# Altium schematic symbol library IC.SchLib: 46 symbols
Pins are listed as number, name and electrical type; pins without a type are passive.

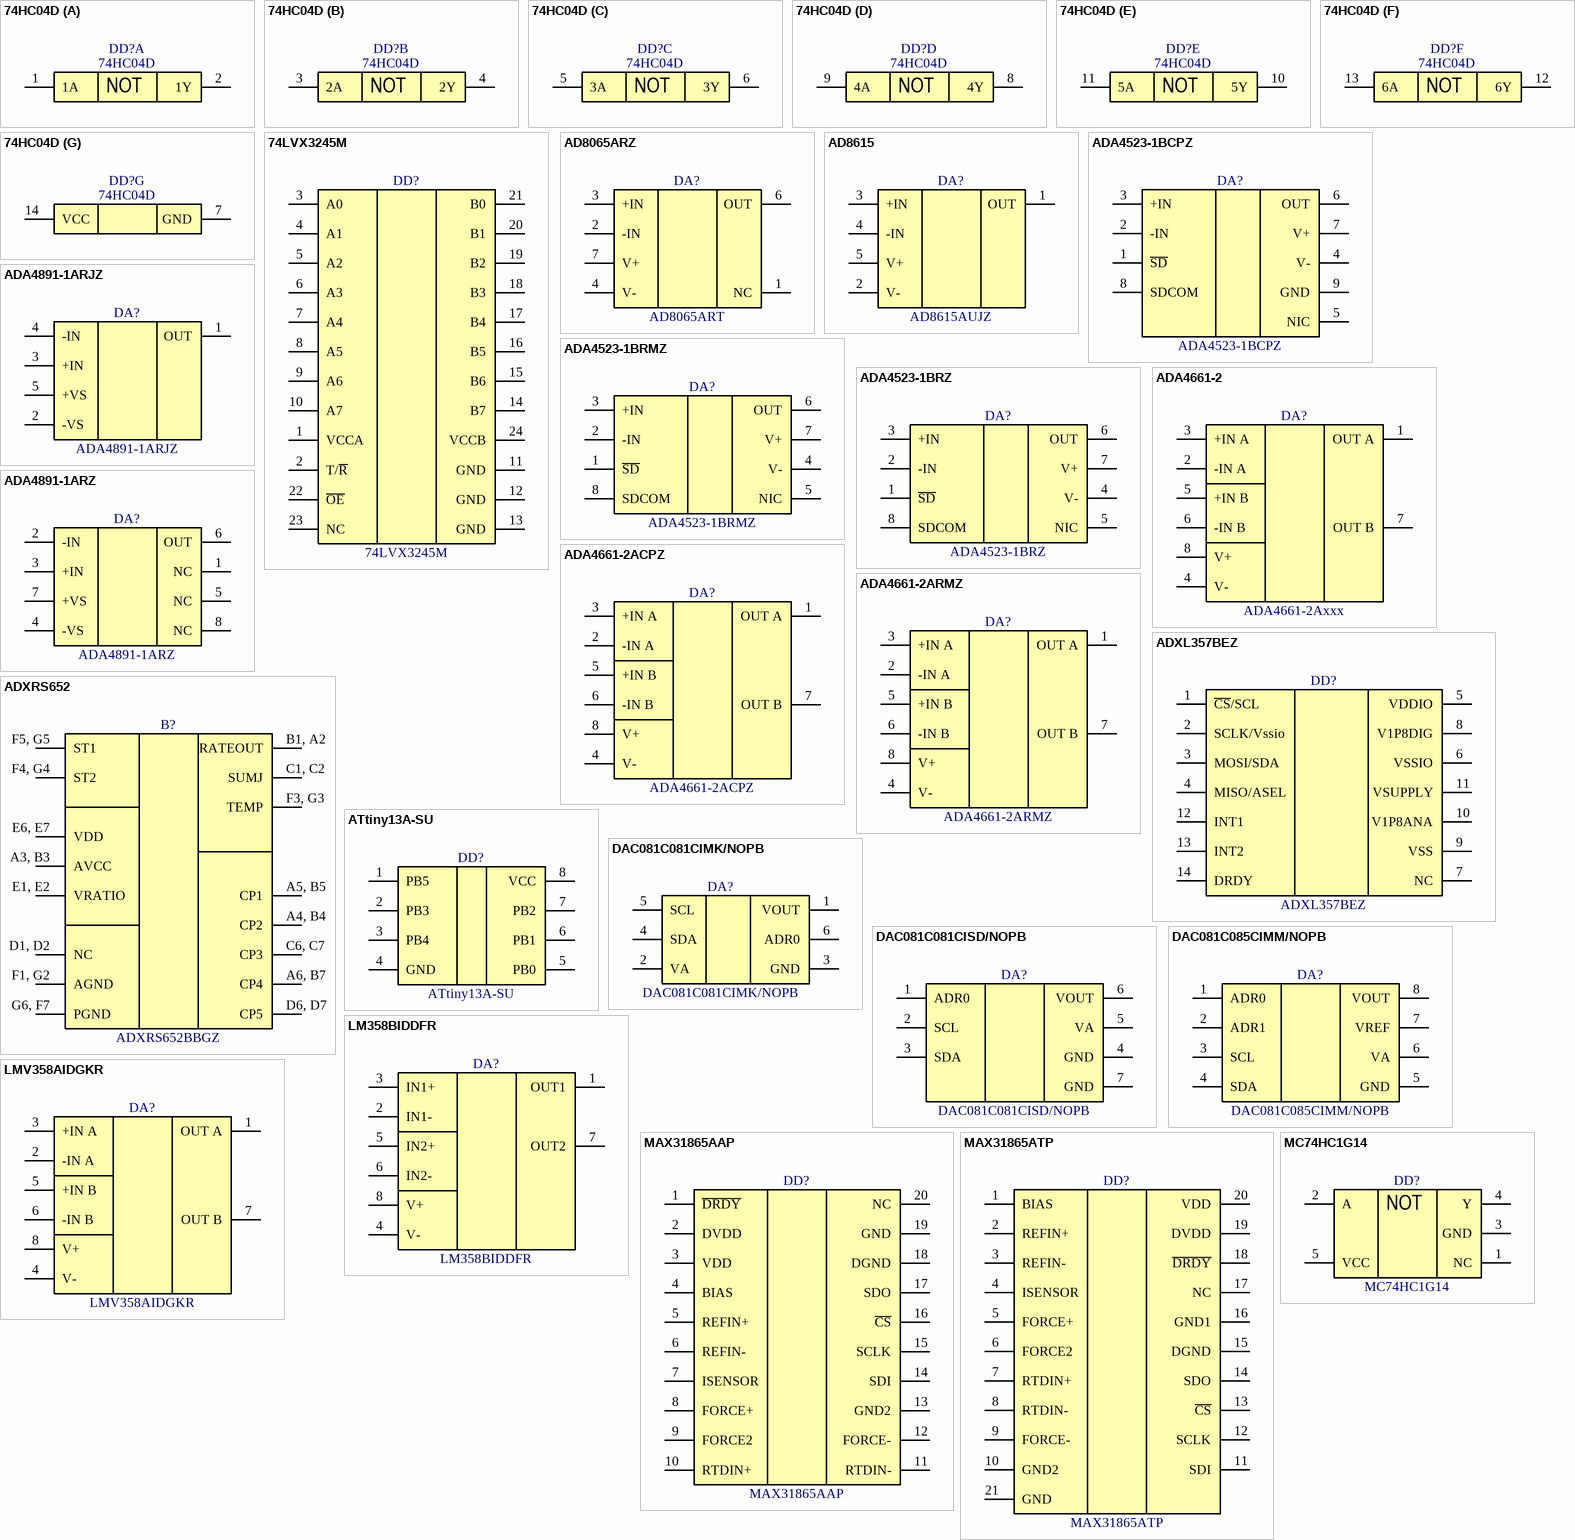
[diagram p0: symbols 74HC04D to MC74HC1G14]

## 74HC04D
designator DD?
Hex inverter; Manufacturer: OnSemi; PartNumber: 74HC04D; ComponentLink1Description: Digikey Datasheet Link; ComponentLink1URL: https://media.digikey.com/pdf/Data%20Sheets/ON%20Semiconductor%20PDFs/74HC04.pdf
footprint SOIC14P127_865X600X175L70X42N (Small Outline IC (SOIC), 1.27 mm pitch; 14 pin, 8.65 mm L X 3.90 mm W X 1.75 mm H body)
part A pins: 1 1A, 2 1Y
part B pins: 3 2A, 4 2Y
part C pins: 5 3A, 6 3Y
part D pins: 8 4Y, 9 4A
part E pins: 10 5Y, 11 5A
part F pins: 12 6Y, 13 6A
part G pins: 7 GND, 14 VCC
part A text: NOT
part B text: NOT
part C text: NOT
part D text: NOT
part E text: NOT
part F text: NOT

## 74LVX3245M
designator DD?
8-Bit Dual-Supply Translator with 3-State Outputs; Manufacturer: STMicroelectronics; PartNumber: 74LVX3245M
footprint SOP24P65_780X640X110L60X24N (Small Outline Pkg (SOP), 0.65 mm pitch; 24 pin, 7.80 mm L X 4.40 mm W X 1.10 mm H body)
pins: 1 VCCA, 2 T/~{R}, 3 A0, 4 A1, 5 A2, 6 A3, 7 A4, 8 A5, 9 A6, 10 A7, 11 GND, 12 GND, 13 GND, 14 B7, 15 B6, 16 B5, 17 B4, 18 B3, 19 B2, 20 B1, 21 B0, 22 ~{OE}, 23 NC, 24 VCCB

## AD8065ARZ
designator DA?, comment AD8065ART
High Performance, 145 MHz FastFET™ Op Amps / Single, SOIC_N; Manufacturer: Analog Devices; PartNumber: AD8065ART; ComponentLink1Description: Product Page; ComponentLink1URL: https://www.analog.com/en/products/ad8065.html; ComponentLink2Description: DataSheet; ComponentLink2URL: https://www.analog.com/media/en/technical-documentation/data-sheets/AD8065_8066.pdf
footprint SOIC8P127_490X600X175L83X41N (Small Outline IC (SOIC), 1.27 mm pitch; 8 pin, 4.90 mm L X 3.90 mm W X 1.75 mm H body)
pins: 1 NC, 2 -IN, 3 +IN, 4 V-, 6 OUT, 7 V+

## AD8615
designator DA?, comment AD8615AUJZ
Precision, 20 MHz, CMOS, Rail-to-Rail Input/Output Operational Amplifier; Manufacturer: Analog Devices; PartNumber: AD8615AUJZ; ComponentLink1Description: Product Page; ComponentLink1URL: https://www.analog.com/en/products/ad8615.html; ComponentLink2Description: DataSheet; ComponentLink2URL: https://www.analog.com/media/en/technical-documentation/data-sheets/AD8615_8616_8618.pdf
footprint SOT23-5P95_280X100L45X40N (Small Outline Transistor (SOT23), 0.95 mm pitch; 5 pin, 2.90 mm L X 1.60 mm W X 1.00 mm H body)
pins: 1 OUT, 2 V-, 3 +IN, 4 -IN, 5 V+

## ADA4523-1BCPZ
designator DA?
36 V, Low Noise, Zero Drift Op Amp, CP-8-29 (LFCSP); Manufacturer: Analog Devices; PartNumber: ADA4523-1BCPZ; ComponentLink1Description: Product Page; ComponentLink1URL: https://www.analog.com/en/products/ada4523-1.html; ComponentLink2Description: DataSheet; ComponentLink2URL: https://www.analog.com/media/en/technical-documentation/data-sheets/ada4523-1.pdf
footprint SON9P50_300X300X80L40X25T238X165N (Small Outline No-Lead (SON with Tab), 0.50 mm pitch; 8 pin, 3.00 mm L X 3.00 mm W X 0.80 mm H body)
pins: 1 ~{SD}, 2 -IN, 3 +IN, 4 V-, 5 NIC, 6 OUT, 7 V+, 8 SDCOM, 9 GND

## ADA4523-1BRMZ
designator DA?
36 V, Low Noise, Zero Drift Op Amp, RM-8 (MSOP); Manufacturer: Analog Devices; PartNumber: ADA4523-1BRMZ; ComponentLink1Description: Product Page; ComponentLink1URL: https://www.analog.com/en/products/ada4523-1.html; ComponentLink2Description: DataSheet; ComponentLink2URL: https://www.analog.com/media/en/technical-documentation/data-sheets/ada4523-1.pdf
footprint SOP8P65_300X490X110L60X32N (Small Outline Pkg (SOP), 0.65 mm pitch; 8 pin, 3.00 mm L X 3.00 mm W X 1.10 mm H body)
pins: 1 ~{SD}, 2 -IN, 3 +IN, 4 V-, 5 NIC, 6 OUT, 7 V+, 8 SDCOM

## ADA4523-1BRZ
designator DA?
36 V, Low Noise, Zero Drift Op Amp, R-8 (SOIC_N); Manufacturer: Analog Devices; PartNumber: ADA4523-1BRZ; ComponentLink1Description: Product Page; ComponentLink1URL: https://www.analog.com/en/products/ada4523-1.html; ComponentLink2Description: DataSheet; ComponentLink2URL: https://www.analog.com/media/en/technical-documentation/data-sheets/ada4523-1.pdf
footprint SOIC8P127_490X600X175L83X41N (Small Outline IC (SOIC), 1.27 mm pitch; 8 pin, 4.90 mm L X 3.90 mm W X 1.75 mm H body)
pins: 1 ~{SD}, 2 -IN, 3 +IN, 4 V-, 5 NIC, 6 OUT, 7 V+, 8 SDCOM

## ADA4661-2
designator DA?, comment ADA4661-2Axxx
18 V, Precision, 725 μA, 4 MHz, CMOS RRIO Operational Amplifier; Manufacturer: Analog Devices; PartNumber: ADA4661-2Axxx; ComponentLink1Description: Product Page; ComponentLink1URL: https://www.analog.com/en/products/ADA4661-2.html; ComponentLink2Description: DataSheet; ComponentLink2URL: https://www.analog.com/media/en/technical-documentation/data-sheets/ADA4661-2.pdf
footprint TSOP65P490X110-8N (TSOP, 8-Leads, Body 3.00x3.00mm, Pitch 0.65mm, IPC Medium Density)
footprint SON50P300X80_HS-9N (SON, 8-Leads, Body 3.00x3.00mm, Pitch 0.50mm, Thermal Pad 2.34x1.49mm, IPC Medium Density)
pins: 1 OUT A, 2 -IN A, 3 +IN A, 4 V-, 5 +IN B, 6 -IN B, 7 OUT B, 8 V+

## ADA4661-2ACPZ
designator DA?
18 V, Precision, 725 μA, 4 MHz, CMOS RRIO Operational Amplifier, CP-8-11 (LFCSP_WD); Manufacturer: Analog Devices; PartNumber: ADA4661-2ACPZ; ComponentLink1Description: Product Page; ComponentLink1URL: https://www.analog.com/en/products/ADA4661-2.html; ComponentLink2Description: DataSheet; ComponentLink2URL: https://www.analog.com/media/en/technical-documentation/data-sheets/ADA4661-2.pdf
footprint SON50P300X80_HS-9N (SON, 8-Leads, Body 3.00x3.00mm, Pitch 0.50mm, Thermal Pad 2.34x1.49mm, IPC Medium Density)
pins: 1 OUT A, 2 -IN A, 3 +IN A, 4 V-, 5 +IN B, 6 -IN B, 7 OUT B, 8 V+

## ADA4661-2ARMZ
designator DA?
18 V, Precision, 725 μA, 4 MHz, CMOS RRIO Operational Amplifier, RM-8 (MSOP); Manufacturer: Analog Devices; PartNumber: ADA4661-2ARMZ; ComponentLink1Description: Product Page; ComponentLink1URL: https://www.analog.com/en/products/ADA4661-2.html; ComponentLink2Description: DataSheet; ComponentLink2URL: https://www.analog.com/media/en/technical-documentation/data-sheets/ADA4661-2.pdf
footprint TSOP65P490X110-8N (TSOP, 8-Leads, Body 3.00x3.00mm, Pitch 0.65mm, IPC Medium Density)
pins: 1 OUT A, 2 -IN A, 3 +IN A, 4 V-, 5 +IN B, 6 -IN B, 7 OUT B, 8 V+

## ADA4891-1ARJZ
designator DA?
Low Cost CMOS, High Speed, Rail-to-Rail Amplifiers, SOT-23; Manufacturer: Analog Devices; PartNumber: ADA4891-1ARJZ; ComponentLink1Description: Product Page; ComponentLink1URL: https://www.analog.com/en/products/ada4891-1.html; ComponentLink2Description: DataSheet; ComponentLink2URL: https://www.analog.com/media/en/technical-documentation/data-sheets/ADA4891-1_4891-2_4891-3_4891-4.PDF
footprint SOT23-5P95_280X145L45X42N (Small Outline Transistor (SOT23), 0.95 mm pitch; 5 pin, 2.90 mm L X 1.60 mm W X 1.45 mm H body)
pins: 1 OUT, 2 -VS, 3 +IN, 4 -IN, 5 +VS

## ADA4891-1ARZ
designator DA?
Low Cost CMOS, High Speed, Rail-to-Rail Amplifiers, SOIC_N; Manufacturer: Analog Devices; PartNumber: ADA4891-1ARZ; ComponentLink1Description: Product Page; ComponentLink1URL: https://www.analog.com/en/products/ada4891-1.html; ComponentLink2Description: DataSheet; ComponentLink2URL: https://www.analog.com/media/en/technical-documentation/data-sheets/ADA4891-1_4891-2_4891-3_4891-4.PDF
footprint SOIC8P127_490X600X175L83X41N (Small Outline IC (SOIC), 1.27 mm pitch; 8 pin, 4.90 mm L X 3.90 mm W X 1.75 mm H body)
pins: 1 NC, 2 -IN, 3 +IN, 4 -VS, 5 NC, 6 OUT, 7 +VS, 8 NC

## ADXL357BEZ
designator DD?
Low Noise, Low Drift, Low Power, 3-Axis MEMS Accelerometers; Manufacturer: Analog Devices; PartNumber: ADXL357BEZ; ComponentLink1Description: Product Page; ComponentLink1URL: https://www.analog.com/en/products/ADXL357.html; ComponentLink2Description: DataSheet; ComponentLink2URL: https://www.analog.com/media/en/technical-documentation/data-sheets/adxl356-357.pdf
footprint LCCS14P127_605X605X220L91X50N (Leadless Chip Carrier (LCC), 1.27 mm pitch; square, 4 pin X 3 pin, 6.05 mm L X 6.05 mm W X 2.20 mm H body)
pins: 1 ~{CS}/SCL, 2 SCLK/Vssio, 3 MOSI/SDA, 4 MISO/ASEL, 5 VDDIO, 6 VSSIO, 7 NC, 8 V1P8DIG, 9 VSS, 10 V1P8ANA, 11 VSUPPLY, 12 INT1, 13 INT2, 14 DRDY

## ADXRS652
designator B?, comment ADXRS652BBGZ
±250°/sec Yaw Rate Gyro; Manufacturer: Analog Devices; PartNumber: ADXRS652BBGZ; ComponentLink1Description: Product Page; ComponentLink1URL: https://www.analog.com/en/products/adxrs652.html; ComponentLink2Description: DataSheet; ComponentLink2URL: https://www.analog.com/media/en/technical-documentation/data-sheets/ADXRS652.pdf; ComponentLink3Description: User Guide; ComponentLink3URL: https://www.analog.com/media/en/technical-documentation/user-guides/UG-153.pdf
footprint BGA32CP80_7X7_687X687X380B55N (Ball Grid Array (BGA), 0.80 mm pitch, square; 32 pin, 6.875 mm L X 6.875 mm W X 3.80 mm H body)
pins: A3, B3 AVCC, A4, B4 CP2, A5, B5 CP1, A6, B7 CP4, B1, A2 RATEOUT, C1, C2 SUMJ, C6, C7 CP3, D1, D2 NC, D6, D7 CP5, E1, E2 VRATIO, E6, E7 VDD, F1, G2 AGND, F3, G3 TEMP, F4, G4 ST2, F5, G5 ST1, G6, F7 PGND

## ATtiny13A-SU
designator DD?
Microcontroller with 1K Bytes / In-System Programmable Flash; Manufacturer: Microchip; PartNumber: ATtiny13A-SU; ComponentLink1Description: Product Page; ComponentLink1URL: https://www.microchip.com/en-us/product/ATtiny13A; ComponentLink2Description: DataSheet; ComponentLink2URL: https://ww1.microchip.com/downloads/aemDocuments/documents/MCU08/ProductDocuments/DataSheets/ATtiny13A-Data-Sheet-DS40002307A.pdf
footprint SOIC8P127_524X798X216L68X40N (Small Outline IC (SOIC), 1.27 mm pitch; 8 pin, 5.24 mm L X 5.29 mm W X 2.16 mm H body)
pins: 1 PB5, 2 PB3, 3 PB4, 4 GND, 5 PB0, 6 PB1, 7 PB2, 8 VCC

## DAC081C081CIMK/NOPB
designator DA?
AC081C08x 8-Bit Micro Power Digital-to-Analog Converter With An I2C-Compatible / Interface, SOT-23-THIN; Manufacturer: Texas Instruments; PartNumber: DAC081C081CIMK/NOPB; ComponentLink1Description: Product Page; ComponentLink1URL: https://www.ti.com/product/DAC081C081; ComponentLink2Description: DataSheet; ComponentLink2URL: https://www.ti.com/lit/gpn/dac081c081
footprint SOT95P280X110-6N (SOT23, 6-Leads, Body 2.90x2.80mm, Pitch 0.95mm, IPC Medium Density)
pins: 1 VOUT, 2 VA, 3 GND, 4 SDA, 5 SCL, 6 ADR0

## DAC081C081CISD/NOPB
designator DA?
AC081C08x 8-Bit Micro Power Digital-to-Analog Converter With An I2C-Compatible / Interface, WSON; Manufacturer: Texas Instruments; PartNumber: DAC081C081CISD/NOPB; ComponentLink1Description: Product Page; ComponentLink1URL: https://www.ti.com/product/DAC081C081; ComponentLink2Description: DataSheet; ComponentLink2URL: https://www.ti.com/lit/gpn/dac081c081
footprint SON7P65_220X250X80L40X25T120X75N (Small Outline No-Lead (SON with Tab), 0.65 mm pitch; 6 pin, 2.20 mm L X 2.50 mm W X 0.80 mm H body)
pins: 1 ADR0, 2 SCL, 3 SDA, 4 GND, 5 VA, 6 VOUT, 7 GND

## DAC081C085CIMM/NOPB
designator DA?
AC081C08x 8-Bit Micro Power Digital-to-Analog Converter With An I2C-Compatible / Interface, VSSOP; Manufacturer: Texas Instruments; PartNumber: DAC081C085CIMM/NOPB; ComponentLink1Description: Product Page; ComponentLink1URL: https://www.ti.com/product/DAC081C081; ComponentLink2Description: DataSheet; ComponentLink2URL: https://www.ti.com/lit/gpn/dac081c081
footprint SOP8P65_300X490X110L55X31N (Small Outline Pkg (SOP), 0.65 mm pitch; 8 pin, 3.00 mm L X 3.00 mm W X 1.10 mm H body)
pins: 1 ADR0, 2 ADR1, 3 SCL, 4 SDA, 5 GND, 6 VA, 7 VREF, 8 VOUT

## LM358BIDDFR
designator DA?
Dual, 36-V, 1.2-MHz, 3-mV offset voltage operational amplifier with -40°C to 85°C operation; Manufacturer: Texas Instruments; ComponentLink1Description: Product Page; ComponentLink1URL: https://www.ti.com/product/LM358B; PartNumber: LM358BIDDFR; ComponentLink2Description: DataSheet; ComponentLink2URL: https://www.ti.com/lit/gpn/lm358b
footprint SOT23-8P65_280X110L45X30N (Small Outline Transistor (SOT23), 0.65 mm pitch; 8 pin, 2.90 mm L X 1.60 mm W X 1.10 mm H body)
pins: 1 OUT1, 2 IN1-, 3 IN1+, 4 V-, 5 IN2+, 6 IN2-, 7 OUT2, 8 V+

## LMV358AIDGKR
designator DA?
Dual, 5.5-V, 1-MHz, 4-mV offset voltage, RRO operational amplifier, VSSOP-8; Manufacturer: Texas Instruments; PartNumber: LMV358AIDGKR; ComponentLink1Description: Product Page; ComponentLink1URL: https://www.ti.com/product/LMV358A; ComponentLink2Description: DataSheet; ComponentLink2URL: https://www.ti.com/lit/gpn/lmv358a
footprint SOP8P65_300X490X110L55X33N (Small Outline Pkg (SOP), 0.65 mm pitch; 8 pin, 3.00 mm L X 3.00 mm W X 1.10 mm H body)
pins: 1 OUT A, 2 -IN A, 3 +IN A, 4 V-, 5 +IN B, 6 -IN B, 7 OUT B, 8 V+

## MAX31865AAP
designator DD?
RTD-to-Digital Converter, SSOP; Manufacturer: Analog Devices; PartNumber: MAX31865AAP; ComponentLink1Description: Product Page; ComponentLink1URL: https://www.analog.com/en/products/max31865.html; ComponentLink2Description: DataSheet; ComponentLink2URL: https://www.analog.com/media/en/technical-documentation/data-sheets/MAX31865.pdf; ComponentLink3Description: Package Outline; ComponentLink3URL: http://pdfserv.maximintegrated.com/package_dwgs/21-0056.PDF; ComponentLink4Description: Land Pattern; ComponentLink4URL: http://pdfserv.maximintegrated.com/land_patterns/90-0094.PDF
footprint SOP20P65_720X777X200L79X31N (Small Outline Pkg (SOP), 0.65 mm pitch; 20 pin, 7.20 mm L X 5.29 mm W X 2.00 mm H body)
pins: 1 ~{DRDY}, 2 DVDD, 3 VDD, 4 BIAS, 5 REFIN+, 6 REFIN-, 7 ISENSOR, 8 FORCE+, 9 FORCE2, 10 RTDIN+, 11 RTDIN-, 12 FORCE-, 13 GND2, 14 SDI, 15 SCLK, 16 ~{CS}, 17 SDO, 18 DGND, 19 GND, 20 NC

## MAX31865ATP
designator DD?
RTD-to-Digital Converter, TQFN; Manufacturer: Analog Devices; PartNumber: MAX31865ATP; ComponentLink1Description: Product Page; ComponentLink1URL: https://www.analog.com/en/products/max31865.html; ComponentLink2Description: DataSheet; ComponentLink2URL: https://www.analog.com/media/en/technical-documentation/data-sheets/MAX31865.pdf; ComponentLink3Description: Package Outline; ComponentLink3URL: http://pdfserv.maximintegrated.com/package_dwgs/21-0140.PDF; ComponentLink4Description: Land Pattern; ComponentLink4URL: http://pdfserv.maximintegrated.com/land_patterns/90-0010.PDF
footprint QFN21P65_500X500X80L40X30T325N (Quad Flat No-Lead (QFN with Tab), 0.65 mm pitch; square, 5 pin X 5 pin, 5.00 mm L X 5.00 mm W X 0.80 mm H body)
pins: 1 BIAS, 2 REFIN+, 3 REFIN-, 4 ISENSOR, 5 FORCE+, 6 FORCE2, 7 RTDIN+, 8 RTDIN-, 9 FORCE-, 10 GND2, 11 SDI, 12 SCLK, 13 ~{CS}, 14 SDO, 15 DGND, 16 GND1, 17 NC, 18 ~{DRDY}, 19 DVDD, 20 VDD, 21 GND

## MC74HC1G14
designator DD?
Single Inverter with  Schmitt-Trigger Input; Manufacturer: OnSemi; PartNumber: MC74HC1G14; ComponentLink1Description: Product Page; ComponentLink1URL: https://www.onsemi.com/products/timing-logic-memory/standard-logic/buffers/mc74hc1g14; ComponentLink2Description: DataSheet; ComponentLink2URL: https://www.onsemi.com/download/data-sheet/pdf/mc74hc1g14-d.pdf
footprint SOT23-5P65_210X110L20X20N (Small Outline Transistor (SOT23), 0.65 mm pitch; 5 pin, 2.00 mm L X 1.25 mm W X 1.10 mm H body)
pins: 1 NC, 2 A, 3 GND, 4 Y, 5 VCC
text: NOT

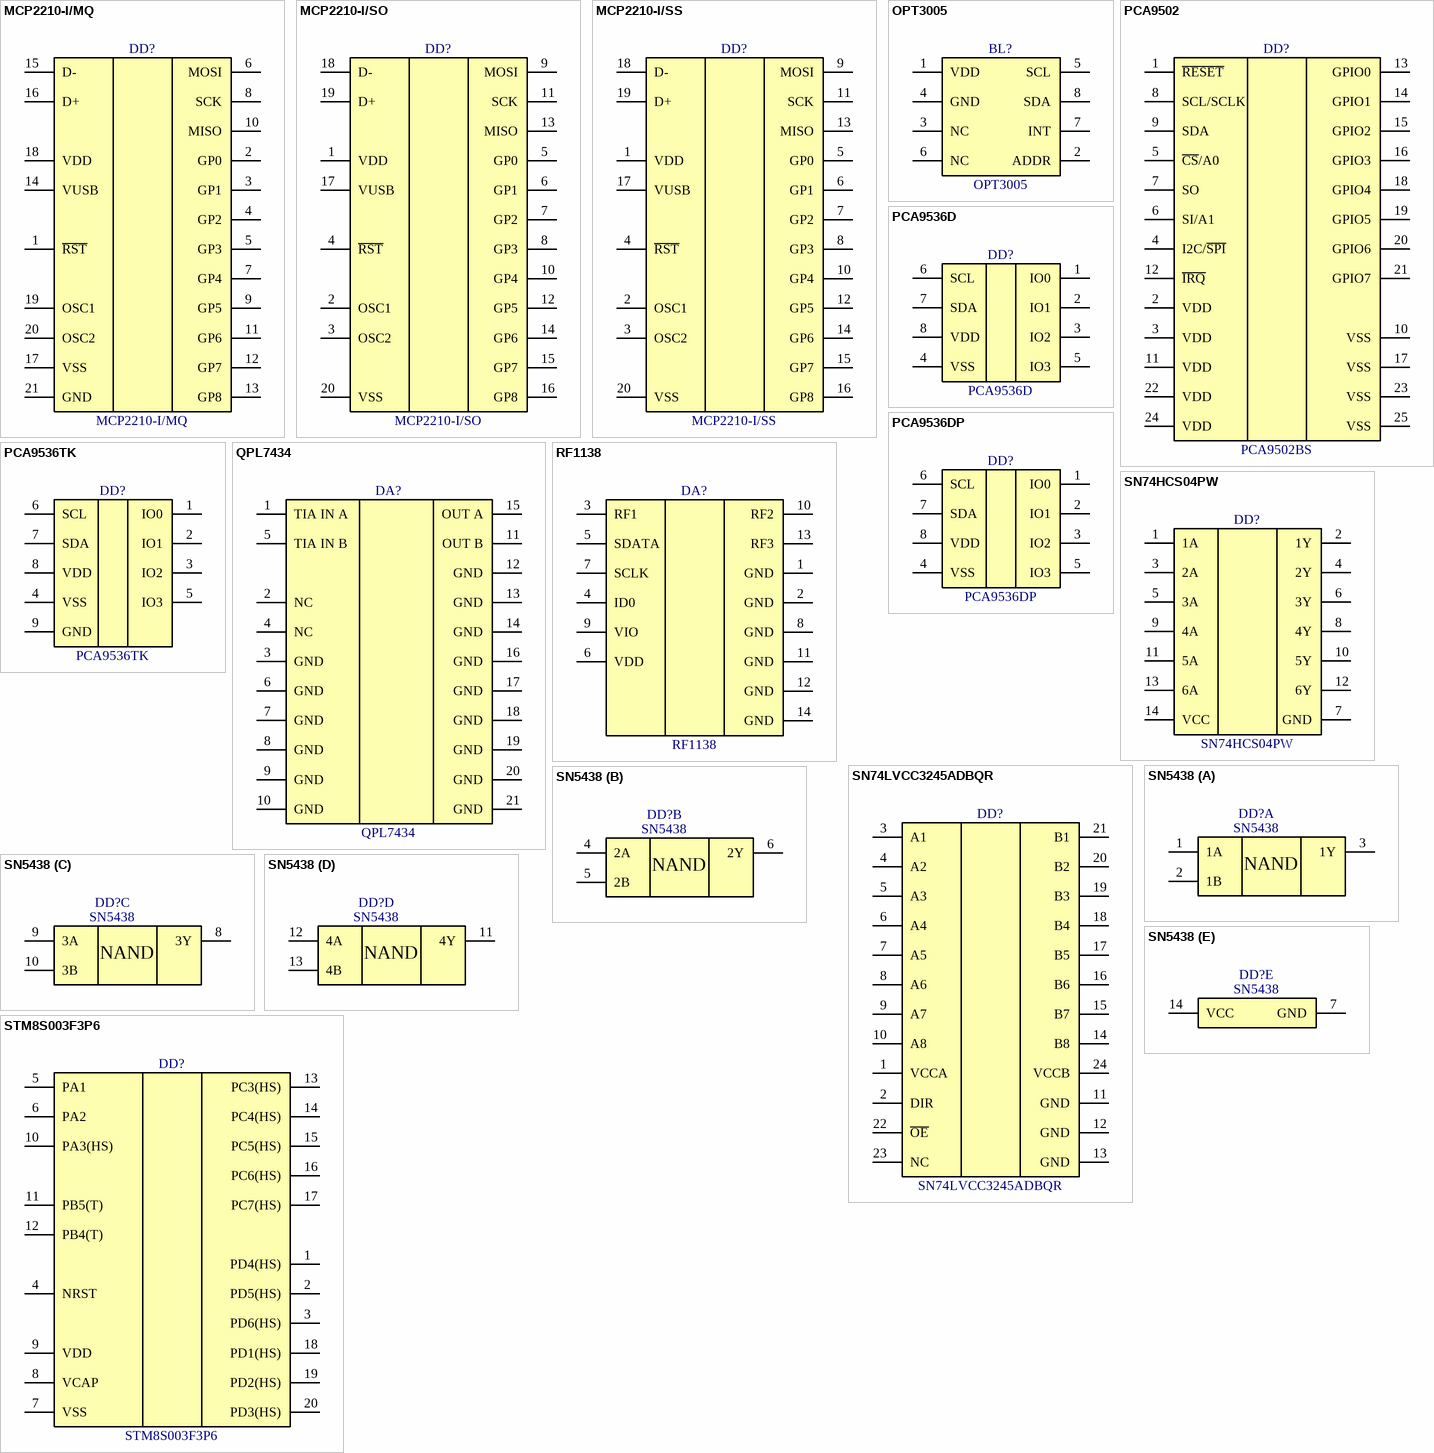
[diagram p1: symbols MCP2210-I/MQ to STM8S003F3P6]

## MCP2210-I/MQ
designator DD?
USB to SPI Converter with GPIO (Master Mode), QFN20; Manufacturer: Microchip; PartNumber: MCP2210-I/MQ; ComponentLink1Description: Product Page; ComponentLink1URL: https://www.microchip.com/en-us/product/MCP2210; ComponentLink2Description: DataSheet; ComponentLink2URL: https://ww1.microchip.com/downloads/aemDocuments/documents/APID/ProductDocuments/DataSheets/MCP2210-USB-to-SPI-Protocol-Converter-with-GPIO-%28Host-Mode%29-20002288C.pdf
footprint QFN21P65_500X500X100L40X30T325N (Quad Flat No-Lead (QFN with Tab), 0.65 mm pitch; square, 5 pin X 5 pin, 5.00 mm L X 5.00 mm W X 1.00 mm H body)
pins: 1 ~{RST}, 2 GP0, 3 GP1, 4 GP2, 5 GP3, 6 MOSI, 7 GP4, 8 SCK, 9 GP5, 10 MISO, 11 GP6, 12 GP7, 13 GP8, 14 VUSB, 15 D-, 16 D+, 17 VSS, 18 VDD, 19 OSC1, 20 OSC2, 21 GND

## MCP2210-I/SO
designator DD?
USB to SPI Converter with GPIO (Master Mode), 20 SOIC; Manufacturer: Microchip; PartNumber: MCP2210-I/SO; ComponentLink1Description: Product Page; ComponentLink1URL: https://www.microchip.com/en-us/product/MCP2210; ComponentLink2Description: DataSheet; ComponentLink2URL: https://ww1.microchip.com/downloads/aemDocuments/documents/APID/ProductDocuments/DataSheets/MCP2210-USB-to-SPI-Protocol-Converter-with-GPIO-%28Host-Mode%29-20002288C.pdf
footprint SOIC20P127_1280X1030X265L65X41N (Small Outline IC (SOIC), 1.27 mm pitch; 20 pin, 12.80 mm L X 7.50 mm W X 2.65 mm H body)
pins: 1 VDD, 2 OSC1, 3 OSC2, 4 ~{RST}, 5 GP0, 6 GP1, 7 GP2, 8 GP3, 9 MOSI, 10 GP4, 11 SCK, 12 GP5, 13 MISO, 14 GP6, 15 GP7, 16 GP8, 17 VUSB, 18 D-, 19 D+, 20 VSS

## MCP2210-I/SS
designator DD?
USB to SPI Converter with GPIO (Master Mode), 20 SSOP; Manufacturer: Microchip; PartNumber: MCP2210-I/SS; ComponentLink1Description: Product Page; ComponentLink1URL: https://www.microchip.com/en-us/product/MCP2210; ComponentLink2Description: DataSheet; ComponentLink2URL: https://ww1.microchip.com/downloads/aemDocuments/documents/APID/ProductDocuments/DataSheets/MCP2210-USB-to-SPI-Protocol-Converter-with-GPIO-%28Host-Mode%29-20002288C.pdf
footprint SOP20P65_720X780X200L75X30N (Small Outline Pkg (SOP), 0.65 mm pitch; 20 pin, 7.20 mm L X 5.30 mm W X 2.00 mm H body)
pins: 1 VDD, 2 OSC1, 3 OSC2, 4 ~{RST}, 5 GP0, 6 GP1, 7 GP2, 8 GP3, 9 MOSI, 10 GP4, 11 SCK, 12 GP5, 13 MISO, 14 GP6, 15 GP7, 16 GP8, 17 VUSB, 18 D-, 19 D+, 20 VSS

## OPT3005
designator BL?
Ambient light sensor (ALS) for video surveillance cameras; Manufacturer: Texas Instruments; PartNumber: OPT3005; ComponentLink1Description: Product Page; ComponentLink1URL: https://www.ti.com/product/OPT3005; ComponentLink2Description: DataSheet; ComponentLink2URL: https://www.ti.com/lit/gpn/opt3005
footprint OPT3005 (Integrated Circuit (IC), Small Outline Flat Lead (SOFL), 0.50 mm pitch; 8 pin, 2.10 mm L X 1.20 mm W X 0.60 mm H body)
pins: 1 VDD, 2 ADDR, 3 NC, 4 GND, 5 SCL, 6 NC, 7 INT, 8 SDA

## PCA9502
designator DD?, comment PCA9502BS
8-bit I/O expander with I2C-bus/SPI interface; Manufacturer: NXP; PartNumber: PCA9502BS; ComponentLink1Description: Product Page; ComponentLink1URL: https://www.nxp.com/products/interfaces/ic-spi-i3c-interface-devices/general-purpose-i-o-gpio/8-bit-i-o-expander-with-ic-bus-spi-interface:PCA9502BS; ComponentLink2Description: DataSheet; ComponentLink2URL: https://www.nxp.com/docs/en/data-sheet/PCA9502.pdf
footprint QFN25P50_400X400X100L40X24T260N (Quad Flat No-Lead (QFN with Tab), 0.50 mm pitch; square, 6 pin X 6 pin, 4.00 mm L X 4.00 mm W X 1.00 mm H body)
pins: 1 ~{RESET}, 2 VDD, 3 VDD, 4 I2C/~{SPI}, 5 ~{CS}/A0, 6 SI/A1, 7 SO, 8 SCL/SCLK, 9 SDA, 10 VSS, 11 VDD, 12 ~{IRQ}, 13 GPIO0, 14 GPIO1, 15 GPIO2, 16 GPIO3, 17 VSS, 18 GPIO4, 19 GPIO5, 20 GPIO6, 21 GPIO7, 22 VDD, 23 VSS, 24 VDD, 25 VSS

## PCA9536D
designator DD?
4-bit I2C-bus and SMBus I/O port, SO8; Manufacturer: NXP; PartNumber: PCA9536D; ComponentLink1Description: Product Page; ComponentLink1URL: https://www.nxp.com/part/PCA9536D#/; ComponentLink2Description: DataSheet; ComponentLink2URL: https://www.nxp.com/docs/en/data-sheet/PCA9536.pdf
footprint SOIC8P127_490X600X175L70X42N (Small Outline IC (SOIC), 1.27 mm pitch; 8 pin, 4.90 mm L X 3.90 mm W X 1.75 mm H body)
pins: 1 IO0, 2 IO1, 3 IO2, 4 VSS, 5 IO3, 6 SCL, 7 SDA, 8 VDD

## PCA9536DP
designator DD?
4-bit I2C-bus and SMBus I/O port, TSSOP8; Manufacturer: NXP; PartNumber: PCA9536DP; ComponentLink1Description: Product Page; ComponentLink1URL: https://www.nxp.com/part/PCA9536DP#/; ComponentLink2Description: DataSheet; ComponentLink2URL: https://www.nxp.com/docs/en/data-sheet/PCA9536.pdf
footprint SOP8P65_300X490X110L55X35N (Footprint not found)
pins: 1 IO0, 2 IO1, 3 IO2, 4 VSS, 5 IO3, 6 SCL, 7 SDA, 8 VDD

## PCA9536TK
designator DD?
4-bit I2C-bus and SMBus I/O port, HVSON8; Manufacturer: NXP; PartNumber: PCA9536TK; ComponentLink1Description: Product Page; ComponentLink1URL: https://www.nxp.com/part/PCA9536TK#/; ComponentLink2Description: DataSheet; ComponentLink2URL: https://www.nxp.com/docs/en/data-sheet/PCA9536.pdf
footprint SON9P50_300X300X100L40X25T210X150N (Small Outline No-Lead (SON with Tab), 0.50 mm pitch; 8 pin, 3.00 mm L X 3.00 mm W X 1.00 mm H body)
pins: 1 IO0, 2 IO1, 3 IO2, 4 VSS, 5 IO3, 6 SCL, 7 SDA, 8 VDD, 9 GND

## QPL7434
designator DA?
xPON Video Receiver; Manufacturer: Qorvo; PartNumber: QPL7434; ComponentLink1Description: Product Page; ComponentLink1URL: https://www.qorvo.com/products/p/QPL7434; ComponentLink2Description: DataSheet; ComponentLink2URL: https://www.qorvo.com/products/d/da006890
footprint QFN21P50_400X400X90L55X23T215N (Quad Flat No-Lead (QFN with Tab), 0.50 mm pitch; square, 5 pin X 5 pin, 4.00 mm L X 4.00 mm W X 0.90 mm H body)
pins: 1 TIA IN A, 2 NC, 3 GND, 4 NC, 5 TIA IN B, 6 GND, 7 GND, 8 GND, 9 GND, 10 GND, 11 OUT B, 12 GND, 13 GND, 14 GND, 15 OUT A, 16 GND, 17 GND, 18 GND, 19 GND, 20 GND, 21 GND

## RF1138
designator DA?
5 bit Tunable Capacitor with Switch; Manufacturer: Qorvo; PartNumber: RF1138; ComponentLink1Description: DataSheet; ComponentLink1URL: https://www.qorvo.com/products/d/da000312
footprint WLCSP14RCP40_4X5_158X198X60B26N (WLCSP, 0.40 mm pitch, rect.; 14 pin, 1.58 mm L X 1.98 mm W X 0.602 mm H body (w/reversed pins))
pins: 1 GND, 2 GND, 3 RF1, 4 ID0, 5 SDATA, 6 VDD, 7 SCLK, 8 GND, 9 VIO, 10 RF2, 11 GND, 12 GND, 13 RF3, 14 GND

## SN74HCS04PW
designator DD?
SN74HCS04 Hex Inverter with Schmitt-Trigger Inputs, TSSOP; Manufacturer: Texas Instruments; PartNumber: SN74HCS04PW; ComponentLink1Description: Product Page; ComponentLink1URL: https://www.ti.com/product/SN74HCS04; ComponentLink2Description: DataSheet; ComponentLink2URL: https://www.ti.com/lit/gpn/sn74hcs04
footprint SOP14P65_500X640X120L62X24N (Small Outline Pkg (SOP), 0.65 mm pitch; 14 pin, 5.00 mm L X 4.35 mm W X 1.20 mm H body)
pins: 1 1A, 2 1Y, 3 2A, 4 2Y, 5 3A, 6 3Y, 7 GND, 8 4Y, 9 4A, 10 5Y, 11 5A, 12 6Y, 13 6A, 14 VCC

## SN74LVCC3245ADBQR
designator DD?
SN74LVCC3245A Octal Bus Transceiver With Adjustable Output Voltage and 3-State Outputs, SSOP; Manufacturer: Texas Insruments; PartNumber: SN74LVCC3245ADBQR; ComponentLink1Description: Product Page; ComponentLink1URL: https://www.ti.com/product/SN74LVCC3245A?HQS=TI-null-null-octopart-df-pf-xrefTI-wwe; ComponentLink2Description: DataSheet; ComponentLink2URL: https://www.ti.com/lit/gpn/sn74lvcc3245a
footprint SOP24P63_865X600X175L65X25N (Small Outline Pkg (SOP), 0.635 mm pitch; 24 pin, 8.65 mm L X 3.90 mm W X 1.75 mm H body)
pins: 1 VCCA, 2 DIR, 3 A1, 4 A2, 5 A3, 6 A4, 7 A5, 8 A6, 9 A7, 10 A8, 11 GND, 12 GND, 13 GND, 14 B8, 15 B7, 16 B6, 17 B5, 18 B4, 19 B3, 20 B2, 21 B1, 22 ~{OE}, 23 NC, 24 VCCB

## SN5438
designator DD?
QUADRUPLE 2-INPUT POSITIVE-NAND BUFFERS WITH OPEN-COLLECTOR OUTPUTS; Manufacturer: Texas Instruments; PartNumber: SN5438; ComponentLink1Description: Product Page; ComponentLink1URL: https://www.ti.com/product/SN5438; ComponentLink2Description: DataSheet; ComponentLink2URL: https://www.ti.com/lit/gpn/sn5438
footprint SOIC14P127_865X600X175L83X41N (Small Outline IC (SOIC), 1.27 mm pitch; 14 pin, 8.65 mm L X 3.90 mm W X 1.75 mm H body)
part A pins: 1 1A, 2 1B, 3 1Y
part B pins: 4 2A, 5 2B, 6 2Y
part C pins: 8 3Y, 9 3A, 10 3B
part D pins: 11 4Y, 12 4A, 13 4B
part E pins: 7 GND, 14 VCC
part A text: NAND
part B text: NAND
part C text: NAND
part D text: NAND

## STM8S003F3P6
designator DD?
Mainstream Value line 8-bit MCU with 8 Kbytes Flash, 16 MHz CPU, integrated EEPROM; Manufacturer: STMicroelectronics; PartNumber: STM8S003F3P6; ComponentLink1Description: Product Page; ComponentLink1URL: https://www.st.com/en/microcontrollers-microprocessors/stm8s003f3.html; ComponentLink2Description: DataSheet; ComponentLink2URL: https://www.st.com/resource/en/datasheet/stm8s003f3.pdf
footprint SOP20P65_650X640X120L60X24N (Small Outline Pkg (SOP), 0.65 mm pitch; 20 pin, 6.50 mm L X 4.40 mm W X 1.20 mm H body)
pins: 1 PD4(HS), 2 PD5(HS), 3 PD6(HS), 4 NRST, 5 PA1, 6 PA2, 7 VSS, 8 VCAP, 9 VDD, 10 PA3(HS), 11 PB5(T), 12 PB4(T), 13 PC3(HS), 14 PC4(HS), 15 PC5(HS), 16 PC6(HS), 17 PC7(HS), 18 PD1(HS), 19 PD2(HS), 20 PD3(HS)

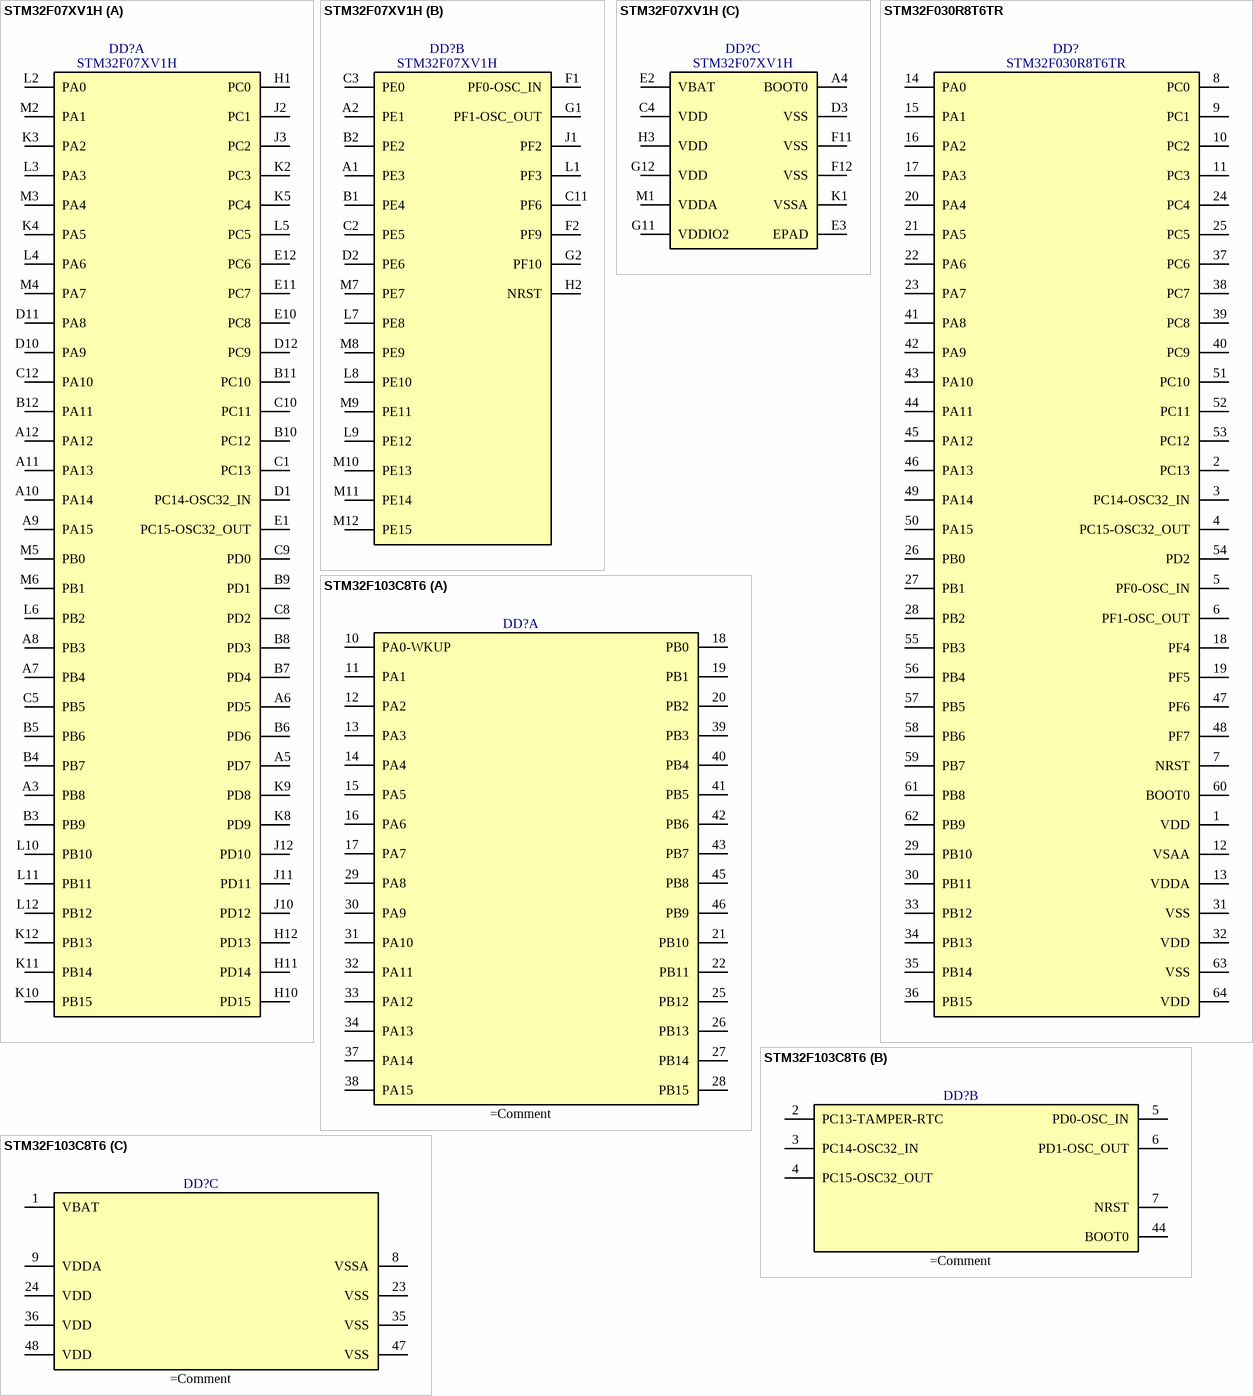
[diagram p2: symbols STM32F07XV1H to STM32F103C8T6]

## STM32F07XV1H
designator DD?
Mainstream ARM Cortex-M0 USB line MCU with 128 Kbytes Flash, 48 MHz CPU, USB, CAN and CEC functions; Manufacturer: STMicroelectronics; PartNumber: STM32F07XV1H; ComponentLink1Description: Product Page; ComponentLink1URL: https://www.st.com/en/microcontrollers-microprocessors/stm32f071v8.html; ComponentLink2Description: DataSheet; ComponentLink2URL: https://www.st.com/resource/en/datasheet/stm32f071v8.pdf
footprint UFBGA100-7x7mm
part A pins: A3 PB8, A5 PD7, A6 PD5, A7 PB4, A8 PB3, A9 PA15, A10 PA14, A11 PA13, A12 PA12, B3 PB9, B4 PB7, B5 PB6, B6 PD6, B7 PD4, B8 PD3, B9 PD1, B10 PC12, B11 PC10, B12 PA11, C1 PC13, C5 PB5, C8 PD2, C9 PD0, C10 PC11, C12 PA10, D1 PC14-OSC32_IN, D10 PA9, D11 PA8, D12 PC9, E1 PC15-OSC32_OUT, E10 PC8, E11 PC7, E12 PC6, H1 PC0, H10 PD15, H11 PD14, H12 PD13, J2 PC1, J3 PC2, J10 PD12, J11 PD11, J12 PD10, K2 PC3, K3 PA2, K4 PA5, K5 PC4, K8 PD9, K9 PD8, K10 PB15, K11 PB14, K12 PB13, L2 PA0, L3 PA3, L4 PA6, L5 PC5, L6 PB2, L10 PB10, L11 PB11, L12 PB12, M2 PA1, M3 PA4, M4 PA7, M5 PB0, M6 PB1
part B pins: A1 PE3, A2 PE1, B1 PE4, B2 PE2, C2 PE5, C3 PE0, C11 PF6, D2 PE6, F1 PF0-OSC_IN, F2 PF9, G1 PF1-OSC_OUT, G2 PF10, H2 NRST, J1 PF2, L1 PF3, L7 PE8, L8 PE10, L9 PE12, M7 PE7, M8 PE9, M9 PE11, M10 PE13, M11 PE14, M12 PE15
part C pins: A4 BOOT0, C4 VDD, D3 VSS, E2 VBAT, E3 EPAD, F11 VSS, F12 VSS, G11 VDDIO2, G12 VDD, H3 VDD, K1 VSSA, M1 VDDA

## STM32F030R8T6TR
designator DD?
Value-line Arm®-based 32-bit MCU with up to 256 KB Flash, timers, / ADC, communication interfaces, 2.4-3.6 V operation; Manufacturer: STMicroelectronics; PartNumber: STM32F030R8T6TR; ComponentLink1Description: Product Page; ComponentLink1URL: https://www.st.com/en/microcontrollers-microprocessors/stm32f030r8.html; ComponentLink2Description: DataSheet; ComponentLink2URL: https://www.st.com/resource/en/datasheet/stm32f030r8.pdf
footprint QFP64P50_1200X1200X160L60X19N (Quad Flat Pack (QFP), 0.50 mm pitch; square, 16 pin X 16 pin, 10.00 mm L X 10.00 mm W X 1.60 mm H body)
pins: 1 VDD, 2 PC13, 3 PC14-OSC32_IN, 4 PC15-OSC32_OUT, 5 PF0-OSC_IN, 6 PF1-OSC_OUT, 7 NRST, 8 PC0, 9 PC1, 10 PC2, 11 PC3, 12 VSAA, 13 VDDA, 14 PA0, 15 PA1, 16 PA2, 17 PA3, 18 PF4, 19 PF5, 20 PA4, 21 PA5, 22 PA6, 23 PA7, 24 PC4, 25 PC5, 26 PB0, 27 PB1, 28 PB2, 29 PB10, 30 PB11, 31 VSS, 32 VDD, 33 PB12, 34 PB13, 35 PB14, 36 PB15, 37 PC6, 38 PC7, 39 PC8, 40 PC9, 41 PA8, 42 PA9, 43 PA10, 44 PA11, 45 PA12, 46 PA13, 47 PF6, 48 PF7, 49 PA14, 50 PA15, 51 PC10, 52 PC11, 53 PC12, 54 PD2, 55 PB3, 56 PB4, 57 PB5, 58 PB6, 59 PB7, 60 BOOT0, 61 PB8, 62 PB9, 63 VSS, 64 VDD

## STM32F103C8T6
designator DD?  (value not drawn)
Mainstream Performance line, Arm Cortex-M3 MCU with 64 Kbytes of Flash memory, 72 MHz CPU, motor control, USB and CAN; Manufacturer: STMicroelectronics; PartNumber: STM32F103C8T6; ComponentLink1Description: Product Page; ComponentLink1URL: https://www.st.com/en/microcontrollers-microprocessors/stm32f103c8.html; ComponentLink2Description: DataSheet; ComponentLink2URL: https://www.st.com/resource/en/datasheet/stm32f103c8.pdf
footprint QFP48P50_900X900X160L60X22N (Quad Flat Pack (QFP), 0.50 mm pitch; square, 12 pin X 12 pin, 7.00 mm L X 7.00 mm W X 1.60 mm H body)
part A pins: 10 PA0-WKUP, 11 PA1, 12 PA2, 13 PA3, 14 PA4, 15 PA5, 16 PA6, 17 PA7, 18 PB0, 19 PB1, 20 PB2, 21 PB10, 22 PB11, 25 PB12, 26 PB13, 27 PB14, 28 PB15, 29 PA8, 30 PA9, 31 PA10, 32 PA11, 33 PA12, 34 PA13, 37 PA14, 38 PA15, 39 PB3, 40 PB4, 41 PB5, 42 PB6, 43 PB7, 45 PB8, 46 PB9
part B pins: 2 PC13-TAMPER-RTC, 3 PC14-OSC32_IN, 4 PC15-OSC32_OUT, 5 PD0-OSC_IN, 6 PD1-OSC_OUT, 7 NRST, 44 BOOT0
part C pins: 1 VBAT, 8 VSSA, 9 VDDA, 23 VSS, 24 VDD, 35 VSS, 36 VDD, 47 VSS, 48 VDD

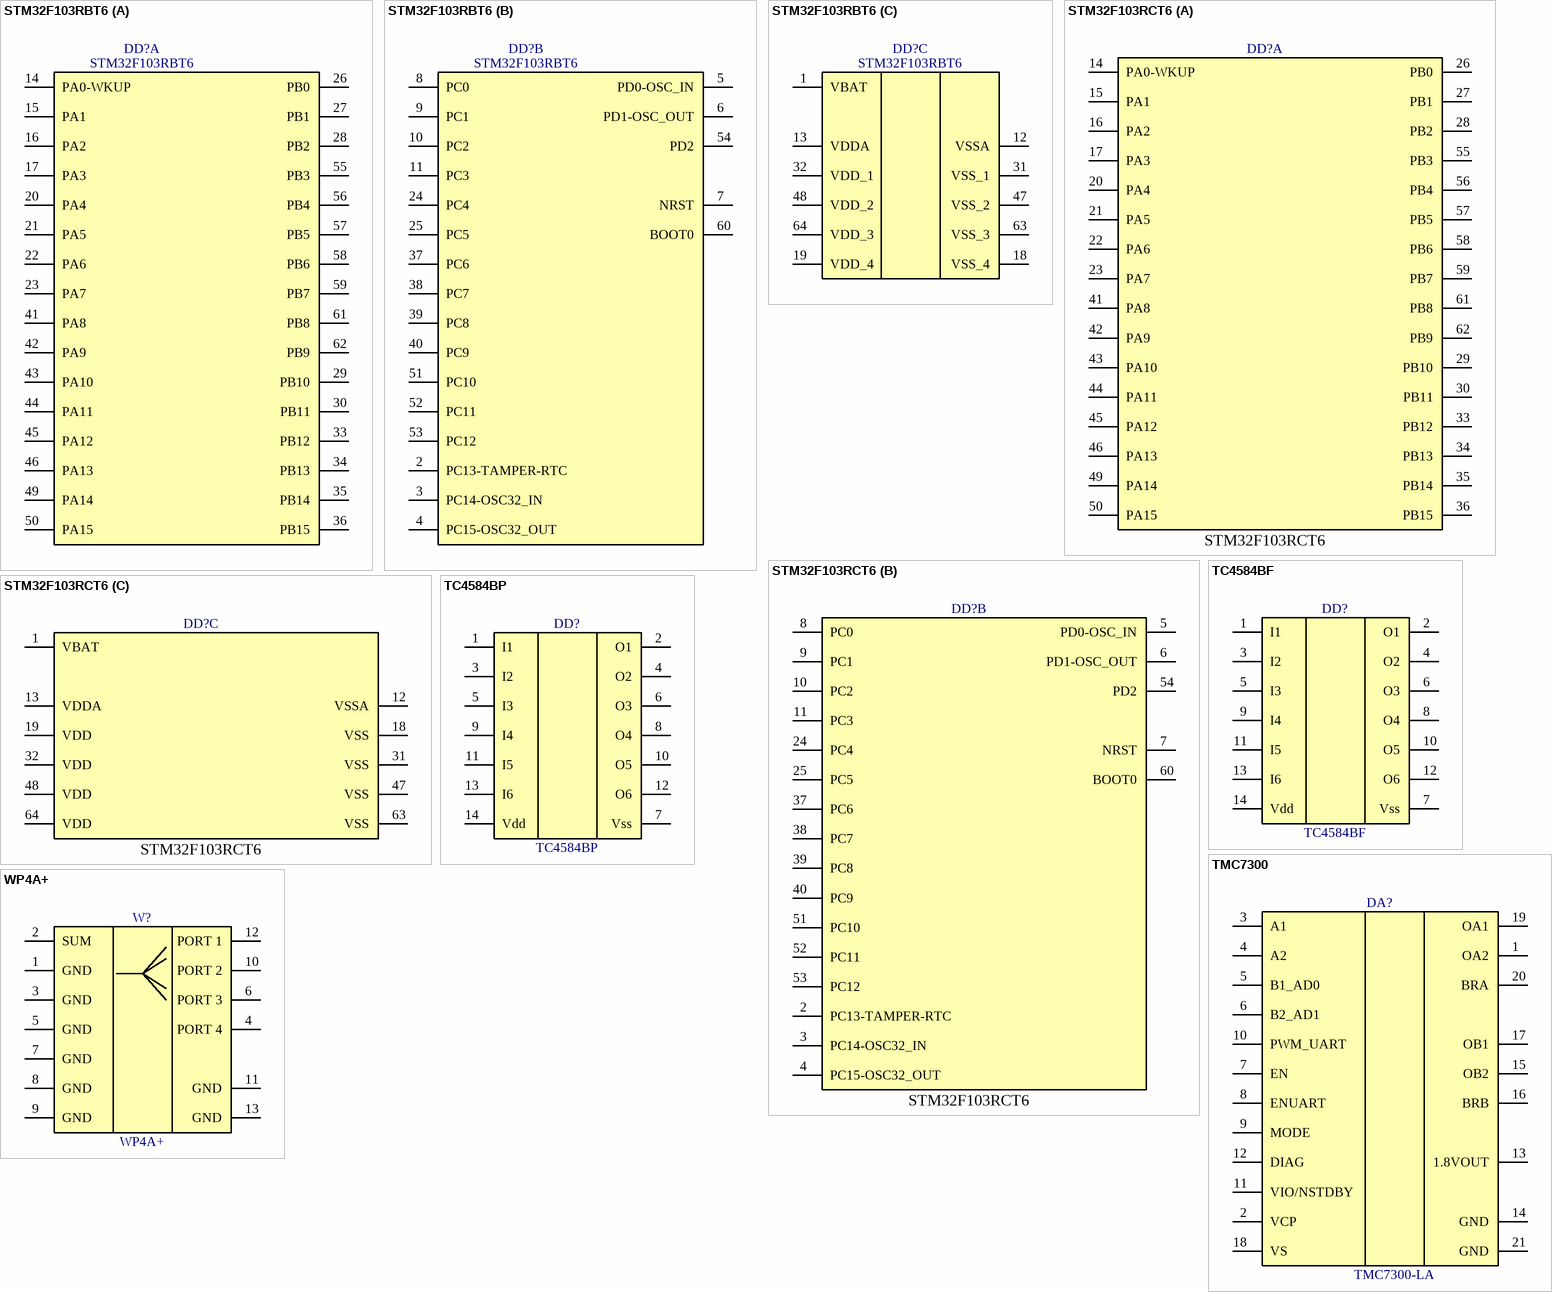
[diagram p3: symbols STM32F103RBT6 to WP4A+]

## STM32F103RBT6
designator DD?
Medium-density performance line Arm®-based 32-bit MCU with 64 or 128 KB Flash, USB, CAN, 7 timers, 2 ADCs, 9 com. interfaces; Manufacturer: STMicroelectronics; PartNumber: STM32F103RBT6; ComponentLink1Description: Product Page; ComponentLink1URL: https://www.st.com/en/microcontrollers-microprocessors/stm32f103rb.html; ComponentLink2Description: DataSheet; ComponentLink2URL: https://www.st.com/resource/en/datasheet/stm32f103rb.pdf
footprint QFP64P50_1200X1200X160L60X19N (Quad Flat Pack (QFP), 0.50 mm pitch; square, 16 pin X 16 pin, 10.00 mm L X 10.00 mm W X 1.60 mm H body)
part A pins: 14 PA0-WKUP, 15 PA1, 16 PA2, 17 PA3, 20 PA4, 21 PA5, 22 PA6, 23 PA7, 26 PB0, 27 PB1, 28 PB2, 29 PB10, 30 PB11, 33 PB12, 34 PB13, 35 PB14, 36 PB15, 41 PA8, 42 PA9, 43 PA10, 44 PA11, 45 PA12, 46 PA13, 49 PA14, 50 PA15, 55 PB3, 56 PB4, 57 PB5, 58 PB6, 59 PB7, 61 PB8, 62 PB9
part B pins: 2 PC13-TAMPER-RTC, 3 PC14-OSC32_IN, 4 PC15-OSC32_OUT, 5 PD0-OSC_IN, 6 PD1-OSC_OUT, 7 NRST, 8 PC0, 9 PC1, 10 PC2, 11 PC3, 24 PC4, 25 PC5, 37 PC6, 38 PC7, 39 PC8, 40 PC9, 51 PC10, 52 PC11, 53 PC12, 54 PD2, 60 BOOT0
part C pins: 1 VBAT, 12 VSSA, 13 VDDA, 18 VSS_4, 19 VDD_4, 31 VSS_1, 32 VDD_1, 47 VSS_2, 48 VDD_2, 63 VSS_3, 64 VDD_3

## STM32F103RCT6
designator DD?  (value not drawn)
Mainstream Performance line, Arm Cortex-M3 MCU with 256 Kbytes of Flash memory, 72 MHz CPU, motor control, USB and CAN; Manufacturer: STMicroelectronics; PartNumber: STM32F103RCT6; ComponentLink1Description: Product Page; ComponentLink1URL: https://www.st.com/en/microcontrollers-microprocessors/stm32f103rc.html; ComponentLink2Description: DataSheet; ComponentLink2URL: https://www.st.com/resource/en/datasheet/stm32f103rc.pdf
footprint QFP64P50_1200X1200X160L60X19N (Quad Flat Pack (QFP), 0.50 mm pitch; square, 16 pin X 16 pin, 10.00 mm L X 10.00 mm W X 1.60 mm H body)
part A pins: 14 PA0-WKUP, 15 PA1, 16 PA2, 17 PA3, 20 PA4, 21 PA5, 22 PA6, 23 PA7, 26 PB0, 27 PB1, 28 PB2, 29 PB10, 30 PB11, 33 PB12, 34 PB13, 35 PB14, 36 PB15, 41 PA8, 42 PA9, 43 PA10, 44 PA11, 45 PA12, 46 PA13, 49 PA14, 50 PA15, 55 PB3, 56 PB4, 57 PB5, 58 PB6, 59 PB7, 61 PB8, 62 PB9
part B pins: 2 PC13-TAMPER-RTC, 3 PC14-OSC32_IN, 4 PC15-OSC32_OUT, 5 PD0-OSC_IN, 6 PD1-OSC_OUT, 7 NRST, 8 PC0, 9 PC1, 10 PC2, 11 PC3, 24 PC4, 25 PC5, 37 PC6, 38 PC7, 39 PC8, 40 PC9, 51 PC10, 52 PC11, 53 PC12, 54 PD2, 60 BOOT0
part C pins: 1 VBAT, 12 VSSA, 13 VDDA, 18 VSS, 19 VDD, 31 VSS, 32 VDD, 47 VSS, 48 VDD, 63 VSS, 64 VDD

## TC4584BF
designator DD?
TC4584B Hex Schmitt Trigger 6 chanel, SOIC; Manufacturer: Toshiba; PartNumber: TC4584BF; ComponentLink1Description: Product Page; ComponentLink1URL: https://toshiba.semicon-storage.com/eu/semiconductor/product/general-purpose-logic-ics/detail.TC4584BF.html; ComponentLink2Description: DataSheet; ComponentLink2URL: https://toshiba.semicon-storage.com/info/docget.jsp?did=20900&prodName=TC4584BF
footprint SOIC14P127_1080X780X190L80X44N (Small Outline IC (SOIC), 1.27 mm pitch; 14 pin, 10.80 mm L X 5.30 mm W X 1.90 mm H body)
pins: 1 I1, 2 O1, 3 I2, 4 O2, 5 I3, 6 O3, 7 Vss, 8 O4, 9 I4, 10 O5, 11 I5, 12 O6, 13 I6, 14 Vdd

## TC4584BP
designator DD?
TC4584B Hex Schmitt Trigger 6 chanel, DIP; Manufacturer: Toshiba; PartNumber: TC4584BP; ComponentLink1Description: Product Page; ComponentLink1URL: https://toshiba.semicon-storage.com/eu/semiconductor/product/general-purpose-logic-ics/detail.TC4584BF.html; ComponentLink2Description: DataSheet; ComponentLink2URL: https://toshiba.semicon-storage.com/info/docget.jsp?did=20900&prodName=TC4584BF
footprint TOSHIBA DIP14-P-300-2.54 (DIP, 7.62 mm lead span, 2.54 mm pitch; 14 pin, 19.75 mm L X 6.60 mm W X 4.45 mm H body)
pins: 1 I1, 2 O1, 3 I2, 4 O2, 5 I3, 6 O3, 7 Vss, 8 O4, 9 I4, 10 O5, 11 I5, 12 O6, 13 I6, 14 Vdd

## TMC7300
designator DA?, comment TMC7300-LA
Low Voltage Driver for One or Two DC Motors up to 2A (2.4A) peak – UART based Control for Torque / and Velocity. 4 Half Bridge Peripheral Driver Option.; Manufacturer: Analog Devices; PartNumber: TMC7300-LA; ComponentLink1Description: Product Page; ComponentLink1URL: https://www.analog.com/en/products/tmc7300.html; ComponentLink2Description: DataSheet; ComponentLink2URL: https://www.analog.com/media/en/technical-documentation/data-sheets/TMC7300_datasheet_rev1.08.pdf
footprint QFN21P40_300X300X90L40X20T170N (Quad Flat No-Lead (QFN with Tab), 0.40 mm pitch; square, 5 pin X 5 pin, 3.00 mm L X 3.00 mm W X 0.90 mm H body)
pins: 1 OA2, 2 VCP, 3 A1, 4 A2, 5 B1_AD0, 6 B2_AD1, 7 EN, 8 ENUART, 9 MODE, 10 PWM_UART, 11 VIO/NSTDBY, 12 DIAG, 13 1.8VOUT, 14 GND, 15 OB2, 16 BRB, 17 OB1, 18 VS, 19 OA1, 20 BRA, 21 GND

## WP4A+
designator W?
4 Ways MMIC Power Splitter, 5100 - 6500 MHz, 50Ω; manufacturer: Mini-Circuits; PartNumber: WP4A+; ComponentLink1Description: Product Page; ComponentLink1URL: https://www.minicircuits.com/WebStore/dashboard.html?model=WP4A%2B; ComponentLink2Description: DataSheet; ComponentLink2URL: https://www.minicircuits.com/WebStore/dashboardPdf?model=WP4A%2B
footprint DQ1225 (Mini-Circuits case DQ1225)
pins: 1 GND, 2 SUM, 3 GND, 4 PORT 4, 5 GND, 6 PORT 3, 7 GND, 8 GND, 9 GND, 10 PORT 2, 11 GND, 12 PORT 1, 13 GND